# EAGLE library part MAB6V (library con-hirschmann)
Female CONNECTOR 6 pins with shield, vertical (DIN 45322)
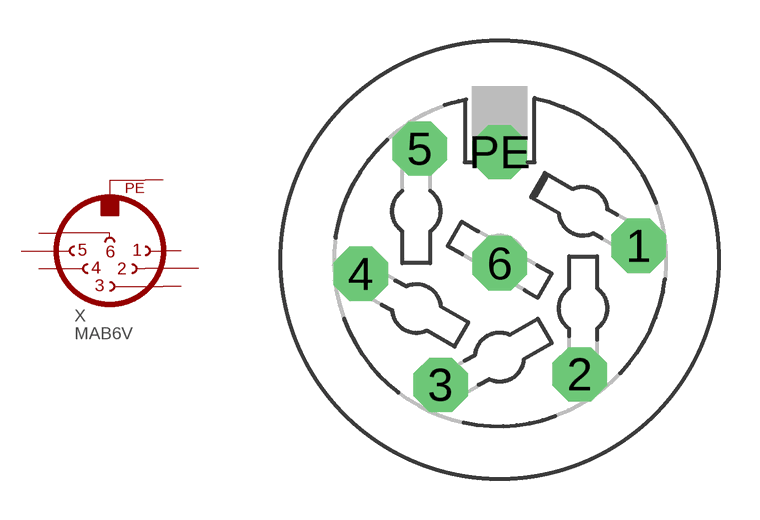
[diagram p7: symbol with the pads of MAB6V; footprint MAB6V]

Designator prefix X

## MAB6V (OC_FARNELL: unknown; OC_NEWARK: unknown)  [MAB6V]
1  1  pas
2  2  pas
3  3  pas
4  4  pas
5  5  pas
6  6  pas
PE  PE  pwr

## Footprint MAB6V (pad centres in mm)
Female CONNECTOR 6 pins with shield, vertical (DIN 45322)
drill 1.321 octagon: 1 5.08,0.508; 2 2.921,-4.191; 3 -2.159,-4.572; 4 -5.08,-0.508; 5 -2.921,4.064; 6 0,-0.127; PE 0,3.937